# Altium footprint library L-PE-N_Connector_C-14_Qualtec.PcbLib: 1 footprints
Each footprint in its own frame and in the unit in brackets; x right, y up, seen from the top. Pads: shape width x height; smd on the part's side, far side on the other; paste and mask are expansions set on the pad; w line width, h text height; cw(c..) or ccw(c..) is an arc to the next point about the centre after c.
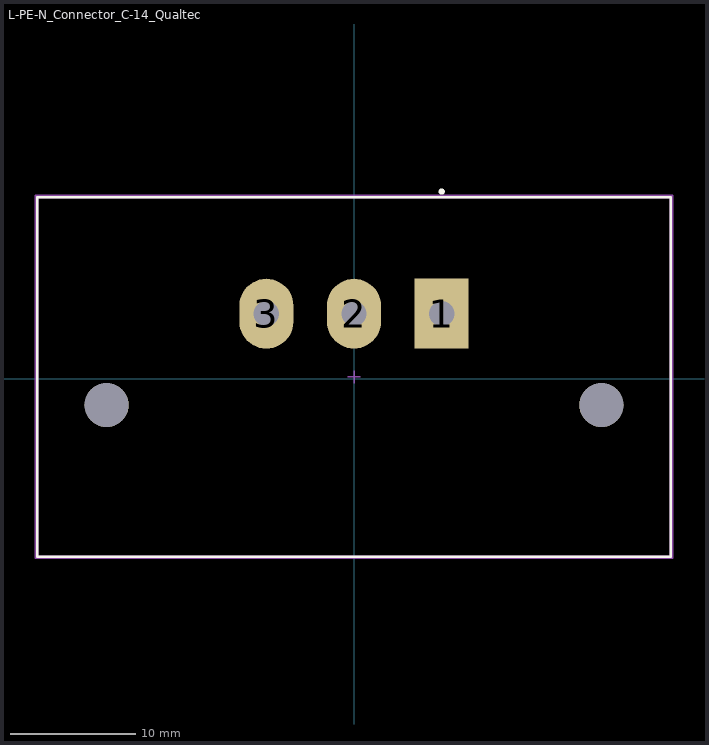
[diagram p0: the footprint, top view; thin cyan lines are the x and y axes]

## L-PE-N_Connector_C-14_Qualtec [mm]
pads (5):
  rect 4.318x5.588 hole 2.032 paste-1000 mask+0: 1(7,5.177)
  oval 4.318x5.588 hole 2.032 paste-1000 mask+0: 2(0,5.177) 3(-7,5.177)
  round 3.5 hole 3.5 unplated paste-1000 mask+0: ""(-19.75,-2.123) ""(19.75,-2.123)
Top Overlay:
  circle w0.25: c7,14.927 r0.125
  lines w0.2: -25.3,-14.223 25.3,-14.223 25.3,14.477 -25.3,14.477 -25.3,-14.223
Top 3D Body:
  lines w0.2: -25.3,-14.223 25.3,-14.223 25.3,14.477 -25.3,14.477 -25.3,-14.223
Top Assembly:
  lines w0.2: -25.4,-14.323 25.4,-14.323 25.4,14.577 -25.4,14.577 -25.4,-14.323
  text ".Designator" at 0,0.315 h1
Top Courtyard:
  lines w0.2: -25.4,-14.323 25.4,-14.323 25.4,14.577 -25.4,14.577 -25.4,-14.323
Top Component Center:
  lines w0.1: -0.5,0.127 0.5,0.127 ; 0,-0.373 0,0.627
3D body "Conn_Qualtek_703W-00-52_eec.STEP": height 0.25, standoff 0, extent -25.4,-14.323 25.4,14.577